# Altium footprint library SolderStation.PcbLib: 37 footprints (part 3 of 3)
Each footprint in its own frame and in the unit in brackets; x right, y up, seen from the top. Pads: shape width x height; smd on the part's side, far side on the other; paste and mask are expansions set on the pad; w line width, h text height; cw(c..) or ccw(c..) is an arc to the next point about the centre after c.
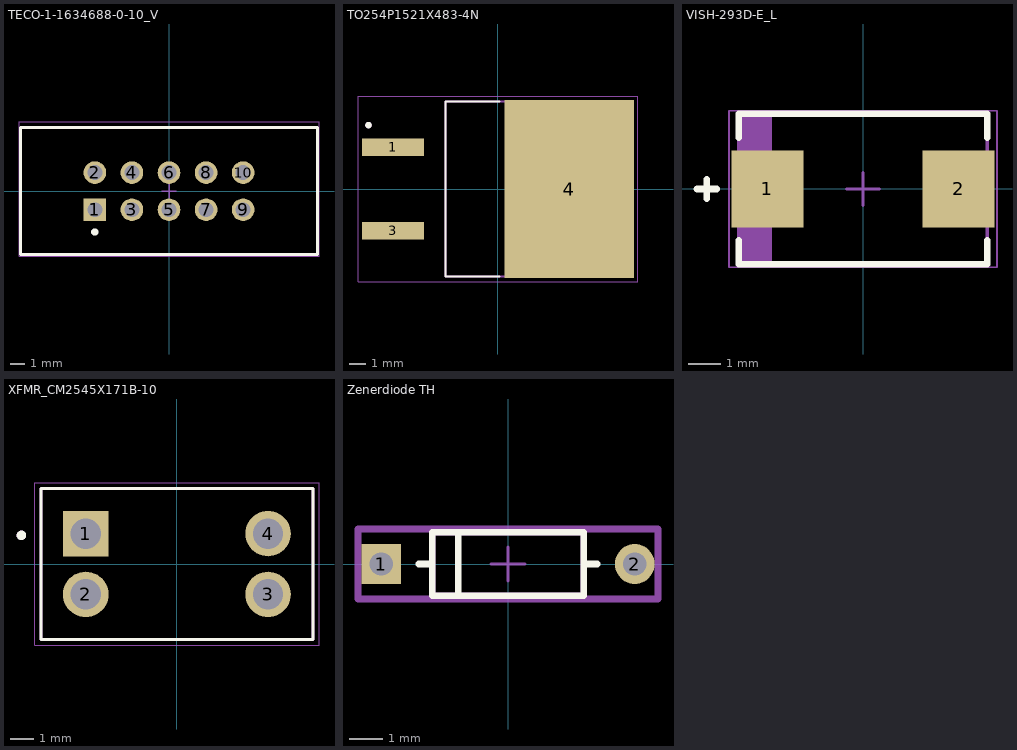
[diagram p2: the footprints below, top view; thin cyan lines are the x and y axes]

## TECO-1-1634688-0-10_V [mm] "10-Pin Connector, Body 20.35x8.7mm, Pitch 2.54mm"
height 9.15
pads (10):
  rect 1.55x1.55 hole 1.02: 1(-5.08,-1.27)
  round 1.55 hole 1.02: 2(-5.08,1.27) 3(-2.54,-1.27) 4(-2.54,1.27) 5(0,-1.27) 6(0,1.27) 7(2.54,-1.27) 8(2.54,1.27) 9(5.08,-1.27) 10(5.08,1.27)
Top Overlay:
  circle w0.25: c-5.08,-2.794 r0.125
  lines w0.2: -10.175,-4.35 10.175,-4.35 10.175,4.35 -10.175,4.35 -10.175,-4.35
Mechanical 13:
  lines w0.1: -10.175,-4.35 10.175,-4.35 10.175,4.35 -10.175,4.35 -10.175,-4.35
Mechanical 15:
  lines w0.05: -10.275,-4.45 10.275,-4.45 10.275,4.75 -10.275,4.75 -10.275,-4.45
  lines w0.1: -0.5,0 0.5,0 ; 0,-0.5 0,0.5
3D body "c-1634688-10-c-3d.stp": height 9, standoff -3.15, extent -10.175,-4.35 10.175,4.65

## TO254P1521X483-4N [mm]
pads (3):
  rect 3.78x1.06 smd: 1(-6.4,2.54) 3(-6.4,-2.54)
  rect 7.88x10.84 smd paste-6: 4(4.35,0)
Top Overlay:
  circle w0.2: c-7.9,3.9 r0.1
  lines w0.127: 0.097,-5.34 -3.208,-5.34 -3.208,5.34 0.097,5.34
Top Paste:
  region: 7.14,-3.83 1.56,-3.83 1.56,3.83 7.14,3.83
Mechanical 13:
  circle w0.2: c-7.9,3.9 r0.1
  lines w0.127: -3.208,-5.34 -3.208,5.34 6.453,5.34 6.453,-5.34 -3.208,-5.34
Mechanical 15:
  lines w0.05: -8.54,-5.67 8.54,-5.67 8.54,5.67 -8.54,5.67 -8.54,-5.67

## VISH-293D-E_L [mm] "Molded Capacitor, 2-Leads, Body 7.6x4.6mm, IPC High Density"
height 4.3
pads (2):
  rect 2.2x2.35 smd: 1(-2.925,0) 2(2.925,0)
Top Overlay:
  lines w0.2: -5.08,0 -4.48,0 ; -4.78,-0.3 -4.78,0.3 ; -3.8,-1.575 -3.8,-2.3 3.8,-2.3 3.8,-1.575 ; -3.8,1.575 -3.8,2.3 3.8,2.3 3.8,1.575
Mechanical 13:
  rectangle: -3.8,-2.3 -2.778,2.3
  lines w0.1: -3.8,-2.3 -3.8,2.3 3.8,2.3 3.8,-2.3 -3.8,-2.3
Mechanical 15:
  lines w0.05: -4.1,-2.4 -4.1,2.4 4.1,2.4 4.1,-2.4 -4.1,-2.4
  lines w0.1: -0.5,0 0.5,0 ; 0,-0.5 0,0.5
3D body "CAPMP7343X43L.step": height 4.3, standoff 0, extent -4.02,-2.3 4.02,2.3

## XFMR_CM2545X171B-10 [mm]
pads (4):
  rect 1.905x1.905 hole 1.27: 1(-3.81,1.27)
  round 1.905 hole 1.27: 2(-3.81,-1.27) 3(3.81,-1.27) 4(3.81,1.27)
Top Overlay:
  circle w0.2: c-6.5,1.2 r0.1
  lines w0.127: -5.69,-3.15 -5.69,3.15 5.69,3.15 5.69,-3.15 -5.69,-3.15
Mechanical 13:
  circle w0.2: c-6.5,1.2 r0.1
  lines w0.127: -5.69,-3.15 -5.69,3.15 5.69,3.15 5.69,-3.15 -5.69,-3.15
Mechanical 15:
  lines w0.05: -5.94,-3.4 5.94,-3.4 5.94,3.4 -5.94,3.4 -5.94,-3.4
3D body "step_temp.STEP": height 9.5, standoff -3.68, extent -5.69,-3.15 5.69,3.15

## Zenerdiode TH [mm] "zenerdiode TH 500mW"
pads (2):
  rect 1.2x1.2 hole 0.7 paste-2539.97 mask+0: 1(-3.813,0)
  round 1.2 hole 0.7 paste-2539.97 mask+0: 2(3.813,0)
Top Overlay:
  lines w0.2: -2.68,0 -2.28,0 ; -1.5,-0.855 -1.5,0.855 ; 2.28,0 2.68,0 ; -2.28,-0.955 2.28,-0.955 2.28,0.955 -2.28,0.955 -2.28,-0.955
Top 3D Body:
  lines w0.2: -2.28,-0.955 2.28,-0.955 2.28,0.955 -2.28,0.955 -2.28,-0.955
Top Courtyard:
  lines w0.2: -4.513,-1.055 4.513,-1.055 4.513,1.055 -4.513,1.055 -4.513,-1.055
Top Assembly:
  lines w0.2: -4.513,-1.055 4.513,-1.055 4.513,1.055 -4.513,1.055 -4.513,-1.055
Top Component Center:
  lines w0.1: -0.5,0 0.5,0 ; 0,-0.5 0,0.5
3D body "Diode_ON_Semiconductor_1N5245BTR_eec.STEP": height 0.25, standoff 0, extent -4.513,-1.055 4.513,1.055